# Altium schematic symbol library SCHOTTKY.Schlib: 1 symbol
Pins are listed as number, name and electrical type; pins without a type are passive.

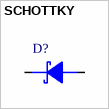
[diagram p0: symbol SCHOTTKY]

## SCHOTTKY
designator D?  (value not drawn)
Schottky Diode
pins: A, C